# Altium schematic symbol library Schlib1.SchLib: 8 symbols
Pins are listed as number, name and electrical type; pins without a type are passive.

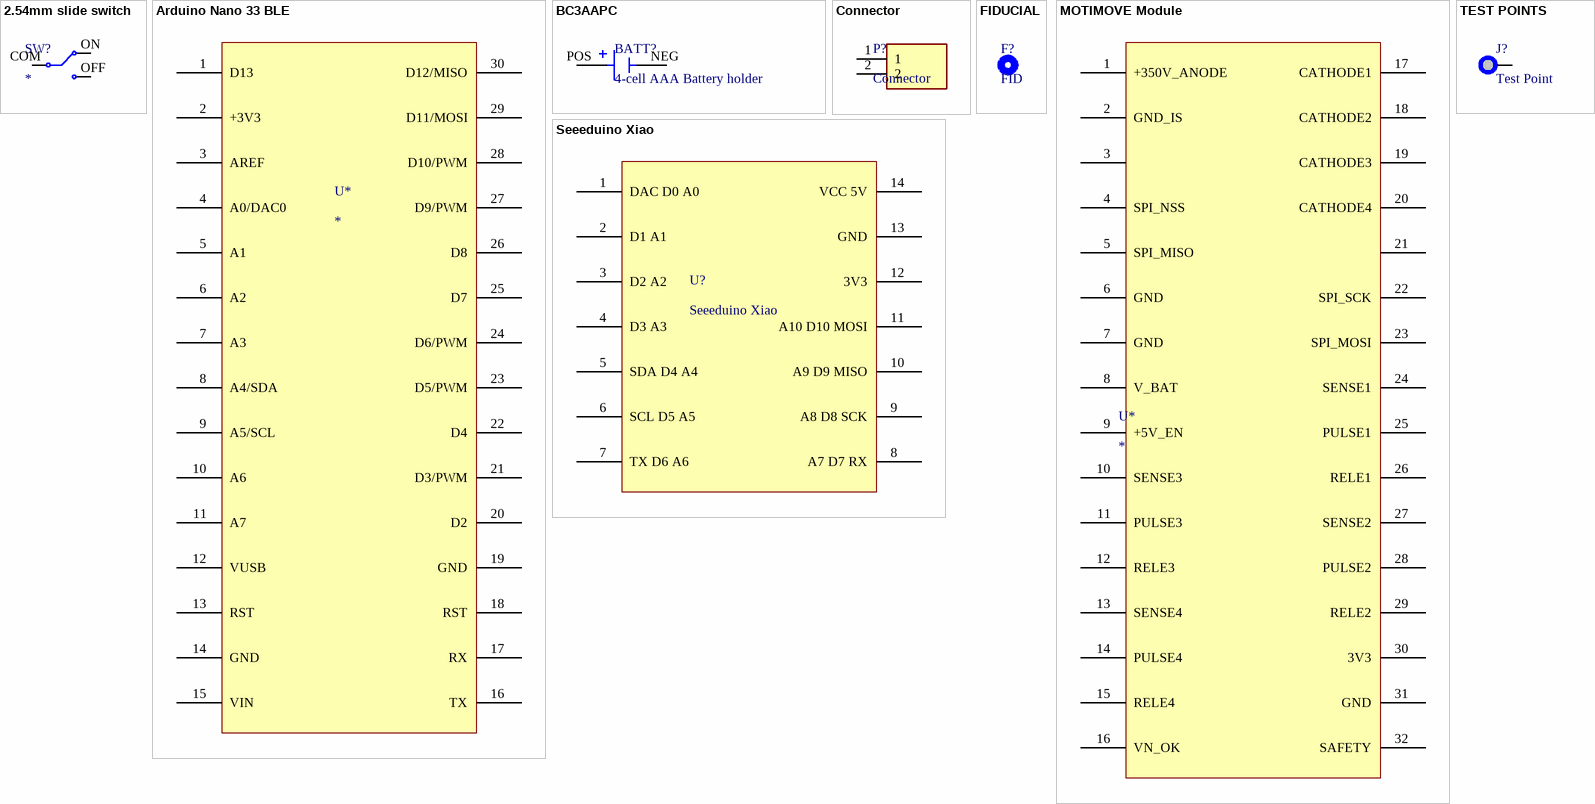
[diagram p0: symbols 2.54mm slide switch to TEST POINTS]

## 2.54mm slide switch
designator SW?
Mouser - 710450301014042
footprint 2.54mm Mini Slide Switch
pins: COM com, OFF, ON

## Arduino Nano 33 BLE
designator U*
footprint Arduino Nano 33 BLE
pins: 1 D13, 2 +3V3, 3 AREF, 4 A0/DAC0, 5 A1, 6 A2, 7 A3, 8 A4/SDA, 9 A5/SCL, 10 A6, 11 A7, 12 VUSB, 13 RST, 14 GND, 15 VIN, 16 TX, 17 RX, 18 RST, 19 GND, 20 D2, 21 D3/PWM, 22 D4, 23 D5/PWM, 24 D6/PWM, 25 D7, 26 D8, 27 D9/PWM, 28 D10/PWM, 29 D11/MOSI, 30 D12/MISO

## BC3AAPC
designator BATT?, comment 4-cell AAA Battery holder
Holder Batt 4-AAA Cells Pc Mnt; MP: BC3AAPC; Package: None; Price: None; Value: *; Availability: Unavailable
footprint BAT_BC3AAPC
pins: NEG, POS

## Connector
designator P?
CONNECTOR : KK Style - Straight Header / 02 Way / 2.54mm Pitch / With Friction Lock
footprint KK series connector header
pins: 1, 2

## FIDUCIAL
designator F?, comment FID
1.5mm Fiducial; Manufacturer Part Number: NA; Manufacturer: NA; Supplier: NA; Supplier Part Number: NA; Case/Package: SMD
footprint Fiducial_1.5mm (1.5mm Fiducial)

## MOTIMOVE Module
designator U*
footprint MOTIMOVE Module
pins: 1 +350V_ANODE, 2 GND_IS, 3, 4 SPI_NSS, 5 SPI_MISO, 6 GND, 7 GND, 8 V_BAT, 9 +5V_EN, 10 SENSE3, 11 PULSE3, 12 RELE3, 13 SENSE4, 14 PULSE4, 15 RELE4, 16 VN_OK, 17 CATHODE1, 18 CATHODE2, 19 CATHODE3, 20 CATHODE4, 21, 22 SPI_SCK, 23 SPI_MOSI, 24 SENSE1, 25 PULSE1, 26 RELE1, 27 SENSE2, 28 PULSE2, 29 RELE2, 30 3V3, 31 GND, 32 SAFETY

## Seeeduino Xiao
designator U?
102010388; Manufacturer: Seeed Studio; Supplier 1: Digi-Key; Supplier Part Number 1: 1597-102010388-ND; Manufacturer Part Number: 102010388; RoHS: No; Category: Embedded Processors and Controllers; Pricing 1: 1=6.50000 (USD)
footprint SEEEDUINO XIAO ARDUINO MCU
pins: 1 DAC D0 A0, 2 D1 A1, 3 D2 A2, 4 D3 A3, 5 SDA D4 A4, 6 SCL D5 A5, 7 TX D6 A6, 8 A7 D7 RX, 9 A8 D8 SCK, 10 A9 D9 MISO, 11 A10 D10 MOSI, 12 3V3, 13 GND, 14 VCC 5V

## TEST POINTS
designator J?, comment Test Point
Test Points 1.02mm
footprint TEST POINTS
pins: 1, 1